# Altium footprint library Capacitor.PcbLib: 19 footprints (part 1 of 2)
Each footprint in its own frame and in the unit in brackets; x right, y up, seen from the top. Pads: shape width x height; smd on the part's side, far side on the other; paste and mask are expansions set on the pad; w line width, h text height; cw(c..) or ccw(c..) is an arc to the next point about the centre after c.
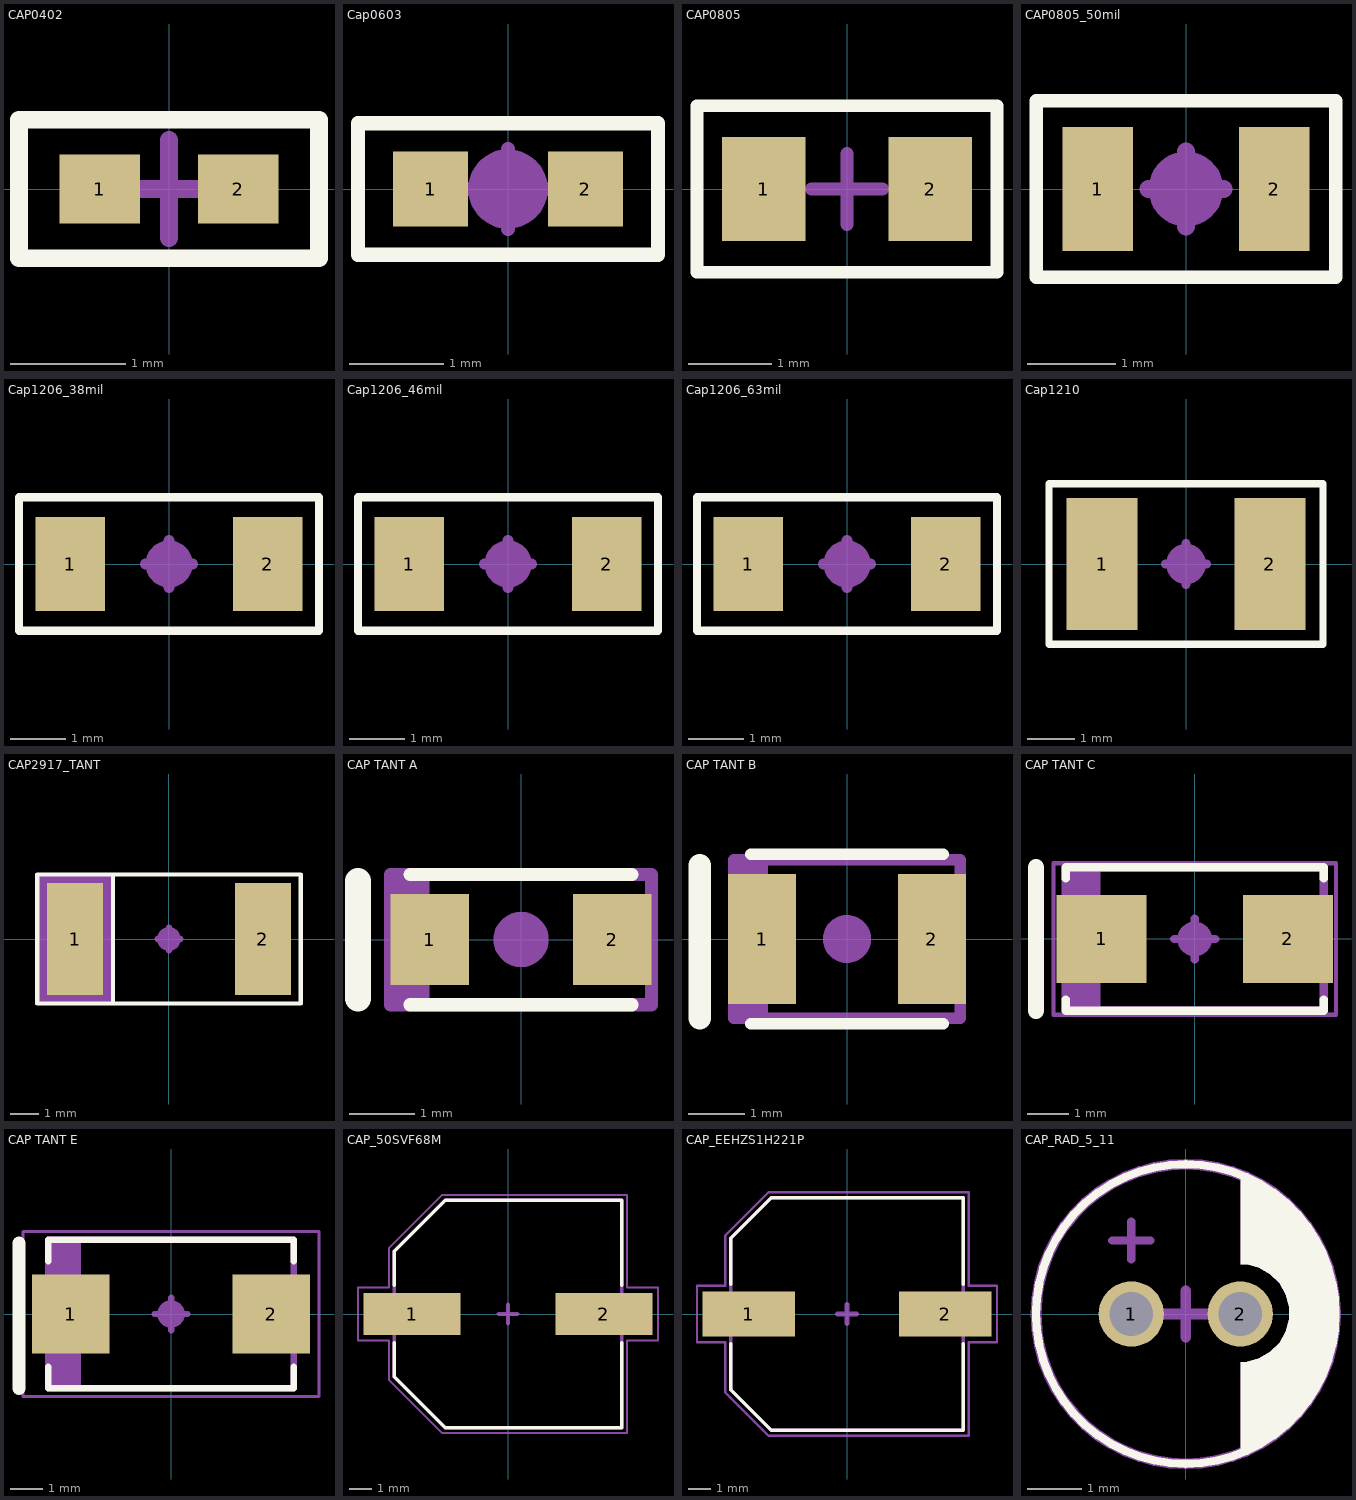
[diagram p0: the footprints below, top view; thin cyan lines are the x and y axes]

## CAP0402 [mm]
pads (2):
  rect 0.7x0.6 smd: 1(-0.6,0) 2(0.6,0)
Top Overlay:
  lines w0.153: -1.3,-0.6 1.3,-0.6 1.3,0.6 -1.3,0.6 -1.3,-0.6
Top Assembly:
  lines w0.1: -1.3,-0.6 1.3,-0.6 1.3,0.6 -1.3,0.6 -1.3,-0.6
  text "'.Designator'" at -1.322,1.07 h0.8
Top Courtyard:
  lines w0.1: -1.3,-0.6 -1.3,0.6 1.3,0.6 1.3,-0.6 -1.3,-0.6
  lines w0.153: -0.425,0 0.425,0 ; 0,-0.425 0,0.425
3D body "C0402.stp": height 0.52, standoff 0.02, extent -0.5,-0.25 0.5,0.25

## Cap0603 [mm]
pads (2):
  rect 0.8x0.8 smd: 1(-0.825,0) 2(0.825,0)
Top Overlay:
  lines w0.153: -1.6,-0.7 1.6,-0.7 1.6,0.7 -1.6,0.7 -1.6,-0.7
Top Assembly:
  circle w0.4: c0,0 r0.224
  lines w0.1: -1.6,-0.7 1.6,-0.7 1.6,0.7 -1.6,0.7 -1.6,-0.7
  text "'.Designator'" at -1.322,1.07 h0.8
Top Courtyard:
  lines w0.1: -1.6,-0.7 -1.6,0.7 1.6,0.7 1.6,-0.7 -1.6,-0.7
  lines w0.153: -0.425,0 0.425,0 ; 0,-0.425 0,0.425
3D body "User Library-CapCeramic_Kemet_0603_1608.STEP": height 0.8, standoff 0, extent -0.863,-0.4 0.737,0.4

## CAP0805 [mm]
pads (2):
  rect 1x1.25 smd: 1(-1,0) 2(1,0)
Top Overlay:
  lines w0.153: -1.8,-1 -1.8,1 1.8,1 1.8,-1 -1.8,-1
Top Assembly:
  lines w0.1: -1.8,-1 1.8,-1 1.8,1 -1.8,1 -1.8,-1
  text "'.Designator'" at -2.547,1.32 h0.8
Top Courtyard:
  lines w0.1: -1.8,-1 -1.8,1 1.8,1 1.8,-1 -1.8,-1
  lines w0.153: -0.425,0 0.425,0 ; 0,-0.425 0,0.425
3D body "Ceramic_Capacitor_0805_h50mil.step": height 1.26, standoff 0.01, extent -1,-0.65 1,0.6

## CAP0805_50mil [mm]
pads (2):
  rect 0.8x1.4 smd: 1(-1,0) 2(1,0)
Top Overlay:
  lines w0.153: -1.7,-1 -1.7,1 1.7,1 1.7,-1 -1.7,-1
Top Assembly:
  circle w0.4: c0,0 r0.224
  lines w0.1: -1.7,-1 1.7,-1 1.7,1 -1.7,1 -1.7,-1
  text "'.Designator'" at -4.532,-0.333 h0.8
Top Courtyard:
  lines w0.1: -1.7,-1 -1.7,1 1.7,1 1.7,-1 -1.7,-1
  lines w0.2: -0.425,0 0.425,0 ; 0,-0.425 0,0.425
3D body "Ceramic_Capacitor_0805_h50mil.step": height 1.26, standoff 0.01, extent -1,-0.65 1,0.6

## Cap1206_38mil [mm]
pads (2):
  rect 1.25x1.7 smd: 1(-1.775,0) 2(1.775,0)
Top Overlay:
  lines w0.153: -2.7,-1.2 -2.7,1.2 2.7,1.2 2.7,-1.2 -2.7,-1.2
Top Assembly:
  circle w0.4: c0,0 r0.224
  lines w0.1: -2.7,-1.2 -2.7,1.2 2.7,1.2 2.7,-1.2 -2.7,-1.2
  text "'.Designator'" at -2.537,1.55 h0.8
Top Courtyard:
  lines w0.1: -2.7,-1.2 -2.7,1.2 2.7,1.2 2.7,-1.2 -2.7,-1.2
  lines w0.2: -0.425,0 0.425,0 ; 0,-0.425 0,0.425
3D body "Ceramic_Capacitor_1206_h38mil.step": height 0.96, standoff 0.01, extent -1.6,-0.775 1.6,0.825

## Cap1206_46mil [mm]
pads (2):
  rect 1.25x1.7 smd: 1(-1.775,0) 2(1.775,0)
Top Overlay:
  lines w0.153: -2.7,-1.2 -2.7,1.2 2.7,1.2 2.7,-1.2 -2.7,-1.2
Top Assembly:
  circle w0.4: c0,0 r0.224
  lines w0.1: -2.7,-1.2 2.7,-1.2 2.7,1.2 -2.7,1.2 -2.7,-1.2
  text "'.Designator'" at -2.537,1.55 h0.8
Top Courtyard:
  lines w0.1: -2.7,-1.2 2.7,-1.2 2.7,1.2 -2.7,1.2 -2.7,-1.2
  lines w0.2: -0.425,0 0.425,0 ; 0,-0.425 0,0.425
3D body "Ceramic_Capacitor_1206_h46mil.step": height 1.16, standoff 0.01, extent -1.6,-0.8 1.6,0.8

## Cap1206_63mil [mm]
pads (2):
  rect 1.25x1.7 smd: 1(-1.775,0) 2(1.775,0)
Top Overlay:
  lines w0.153: -2.7,-1.2 2.7,-1.2 2.7,1.2 -2.7,1.2 -2.7,-1.2
Top Assembly:
  circle w0.4: c0,0 r0.224
  lines w0.1: -2.7,-1.2 2.7,-1.2 2.7,1.2 -2.7,1.2 -2.7,-1.2
  text "'.Designator'" at -2.537,1.55 h0.8
Top Courtyard:
  lines w0.1: -2.7,-1.2 2.7,-1.2 2.7,1.2 -2.7,1.2 -2.7,-1.2
  lines w0.2: -0.425,0 0.425,0 ; 0,-0.425 0,0.425
3D body "Ceramic_Capacitor_1206_h63mil.step": height 1.61, standoff 0.01, extent -1.6,-0.775 1.6,0.825

## Cap1210 [mm]
pads (2):
  rect 1.5x2.8 smd: 1(-1.775,0) 2(1.775,0)
Top Overlay:
  lines w0.153: -2.9,-1.7 -2.9,1.7 2.9,1.7 2.9,-1.7 -2.9,-1.7
Top Assembly:
  circle w0.4: c0,0 r0.224
  lines w0.1: -2.9,-1.7 -2.9,1.7 2.9,1.7 2.9,-1.7 -2.9,-1.7
  text "'.Designator'" at -3.847,2.22 h0.8
Top Courtyard:
  lines w0.1: -2.9,-1.7 -2.9,1.7 2.9,1.7 2.9,-1.7 -2.9,-1.7
  lines w0.2: -0.425,0 0.425,0 ; 0,-0.425 0,0.425
3D body "CAP1210.STEP": height 1.5, standoff 0, extent -1.7,-1.3 1.7,1.3

## CAP2917_TANT [mm]
pads (2):
  rect 2x4 smd: 1(-3.35,0) 2(3.35,0)
Top Overlay:
  lines w0.153: -2,-2.3 -2,2.3 ; -4.7,-2.3 4.7,-2.3 4.7,2.3 -4.7,2.3 -4.7,-2.3
Top Assembly:
  circle w0.4: c0,0 r0.224
  rectangle: -4.7,-2.3 -2,2.3
  lines w0.1: -2,-2.3 -2,2.3 ; -4.7,-2.3 4.7,-2.3 4.7,2.3 -4.7,2.3 -4.7,-2.3
  text "'.Designator'" at -4.637,2.95 h0.8
Top Courtyard:
  lines w0.1: -2,-2.3 -2,2.3 ; -4.7,-2.3 -4.7,2.3 4.7,2.3 4.7,-2.3 -4.7,-2.3
  lines w0.2: -0.425,0 0.425,0 ; 0,-0.425 0,0.425
3D body "AVX_E_CASE.step": height 4.2, standoff 0, extent -3.7,-2.225 3.7,2.225

## CAP TANT A [mm]
pads (2):
  rect 1.2x1.4 smd: 1(-1.4,0) 2(1.4,0)
Top Overlay:
  lines w0.2: -1.7,-1 1.7,-1 ; -1.7,1 1.7,1
  lines w0.4: -2.5,-0.9 -2.5,0.9
Top Assembly:
  circle w0.4: c0,0 r0.224
  rectangle: -2.007,-1 -1.4,1.016
  lines w0.2: -2,-1 2,-1 2,1 -2,1 -2,-1
  text "'.Designator'" at -3.947,1.62 h0.8
Top Courtyard:
  lines w0.1: -2.049,-1 -2.049,1 2.01,1 2.01,-1 -2.049,-1
  lines w0.2: -0.3,0 0.3,0 ; 0,-0.3 0,0.3
3D body "User Library-CAP_TANT_3216-18_A_case-1.STEP": height 1.7, standoff 0, extent -1.7,-0.9 1.7,0.9

## CAP TANT B [mm]
pads (2):
  rect 1.2x2.3 smd: 1(-1.5,0) 2(1.5,0)
Top Overlay:
  lines w0.2: -1.7,-1.5 1.7,-1.5 ; -1.7,1.5 1.7,1.5
  lines w0.4: -2.6,-1.4 -2.6,1.3
Top Assembly:
  circle w0.4: c0,0 r0.224
  rectangle: -2.007,-1.4 -1.4,1.4
  lines w0.2: -2,-1.4 -2,1.4 2,1.4 2,-1.4 -2,-1.4
  text "'.Designator'" at -4.747,2.02 h0.8
Top Courtyard:
  lines w0.1: -2.049,-1.4 2.01,-1.4 2.01,1.4 -2.049,1.4 -2.049,-1.4
  lines w0.2: -0.3,0 0.3,0 ; 0,-0.3 0,0.3
3D body "User Library-QT02752.STEP": height 1.9, standoff -0.01, extent -1.831,-1.4 1.831,1.4

## CAP TANT C [mm] "CAP TANT C"
pads (2):
  rect 2.2x2.15 smd: 1(-2.275,0) 2(2.275,0)
Top Overlay:
  lines w0.2: -3.15,-1.475 -3.15,-1.75 3.15,-1.75 3.15,-1.475 ; -3.15,1.475 -3.15,1.75 3.15,1.75 3.15,1.475
  lines w0.4: -3.875,-1.75 -3.875,1.75
Top Assembly:
  circle w0.4: c0,0 r0.224
  rectangle: -3.15,-1.75 -2.303,1.75
  lines w0.2: -3.15,-1.75 -3.15,1.75 3.15,1.75 3.15,-1.75 -3.15,-1.75
  text "CHECK" at -1.275,2.571 h0.8
Top Courtyard:
  lines w0.1: -3.45,-1.85 3.45,-1.85 3.45,1.85 -3.45,1.85 -3.45,-1.85
  lines w0.2: -0.5,0 0.5,0 ; 0,-0.5 0,0.5
3D body "CAPMP6032X28L.step": height 2.8, standoff 0, extent -3.37,-1.75 3.37,1.75

## CAP TANT E [mm] "Molded Capacitor, 2-Leads, Body 7,45x4,45mm, IPC Medium Density"
height 4
pads (2):
  rect 2.4x2.45 smd: 1(-3.1,0) 2(3.1,0)
Top Overlay:
  lines w0.2: -3.8,-1.625 -3.8,-2.3 3.8,-2.3 3.8,-1.625 ; -3.8,1.625 -3.8,2.3 3.8,2.3 3.8,1.625
  lines w0.4: -4.7,-2.3 -4.7,2.2
Top Assembly:
  circle w0.4: c0,0 r0.224
  rectangle: -3.8,-2.3 -2.778,2.3
  lines w0.2: -3.8,-2.3 -3.8,2.3 3.8,2.3 3.8,-2.3 -3.8,-2.3
  text "CHECK" at -1.247,3.353 h0.8
Top Courtyard:
  lines w0.1: -4.575,-2.55 -4.575,2.55 4.575,2.55 4.575,-2.55 -4.575,-2.55
  lines w0.2: -0.5,0 0.5,0 ; 0,-0.5 0,0.5
3D body "CAP TANT E.step": height 4, standoff 0, extent -4.02,-2.3 4.02,2.3

## CAP_50SVF68M [mm]
pads (2):
  rect 4.4x1.9 smd: 1(-4.35,0) 2(4.35,0)
Top Overlay:
  lines w0.153: -5.15,-1.3 -5.15,-2.85 -2.85,-5.15 5.15,-5.15 5.15,-1.3 ; -5.15,1.3 -5.15,2.85 -2.85,5.15 5.15,5.15 5.15,1.3
Top Assembly:
  lines w0.153: -5.15,-2.85 -2.85,-5.15 5.15,-5.15 5.15,5.15 -2.85,5.15 -5.15,2.85 -5.15,-2.85
  text "CHECK" at -2.047,7.153 h0.8
  text "'.Designator'" at -5.29,5.4 h0.8
Top Courtyard:
  lines w0.1: -6.8,-1.2 -5.4,-1.2 -5.4,-2.975 -2.975,-5.4 5.4,-5.4 5.4,-1.2 6.8,-1.2 6.8,1.2 5.4,1.2 5.4,5.4 -2.975,5.4 -5.4,2.975 -5.4,1.2 -6.8,1.2 -6.8,-1.2
  lines w0.2: -0.425,0 0.425,0 ; 0,-0.425 0,0.425
3D body "50SVF68M.STEP": height 12.6, standoff 0, extent -5.5,-5.15 5.5,5.15

## CAP_EEHZS1H221P [mm]
pads (2):
  rect 4.1x2 smd: 1(-4.35,0) 2(4.35,0)
Top Overlay:
  lines w0.153: -5.15,-1.32 -5.15,-3.35 -3.35,-5.15 5.15,-5.15 5.15,-1.32 ; -5.15,1.32 -5.15,3.35 -3.35,5.15 5.15,5.15 5.15,1.32
Top Assembly:
  lines w0.153: -5.15,-3.35 -5.15,3.35 -3.35,5.15 5.15,5.15 5.15,-5.15 -3.35,-5.15 -5.15,-3.35
  text "'.Designator'" at -6.59,5.6 h0.8
  text "CHECK" at -1.847,7.753 h0.8
Top Courtyard:
  lines w0.1: -6.65,-1.25 -6.65,1.25 -5.4,1.25 -5.4,3.475 -3.475,5.4 5.4,5.4 5.4,1.25 6.65,1.25 6.65,-1.25 5.4,-1.25 5.4,-5.4 -3.475,-5.4 -5.4,-3.475 -5.4,-1.25 -6.65,-1.25
  lines w0.2: -0.425,0 0.425,0 ; 0,-0.425 0,0.425
3D body "step_temp.STEP": height 16.5, standoff 0, extent -5.5,-5.15 5.5,5.15

## CAP_RAD_5_11 [mm]
pads (2):
  round 1.2 hole 0.8: 1(-1,0) 2(1,0)
Top Overlay:
  circle w0.15: c0,0 r2.75
  region: 1.008,-2.536 1.008,-0.883 1.125,-0.875 1.352,-0.814 1.556,-0.697 1.722,-0.53 1.839,-0.327 1.9,-0.1 1.9,0.135 1.839,0.362 1.722,0.565 1.556,0.731 1.352,0.849 1.125,0.91 1.008,0.917 1.008,2.556 1.016,2.576 1.207,2.501 1.562,2.295 1.883,2.039 2.163,1.738 2.395,1.398 2.573,1.029 2.695,0.636 2.757,0.23 2.758,-0.181 2.698,-0.587 2.579,-0.98 2.402,-1.351 2.172,-1.692 1.894,-1.994 1.574,-2.252 1.22,-2.46 1.029,-2.536
Top Assembly:
  circle w0.15: c0,0 r2.75
  region: 1.008,-2.536 1.008,-0.883 1.125,-0.875 1.352,-0.814 1.556,-0.697 1.722,-0.53 1.839,-0.327 1.9,-0.1 1.9,0.135 1.839,0.362 1.722,0.565 1.556,0.731 1.352,0.849 1.125,0.91 1.008,0.917 1.008,2.556 1.016,2.576 1.207,2.501 1.562,2.295 1.883,2.039 2.163,1.738 2.395,1.398 2.573,1.029 2.695,0.636 2.757,0.23 2.758,-0.181 2.698,-0.587 2.579,-0.98 2.402,-1.351 2.172,-1.692 1.894,-1.994 1.574,-2.252 1.22,-2.46 1.029,-2.536
  lines w0.15: -1.35,1.35 -0.65,1.35 ; -1,1 -1,1.7
  text "'.Designator'" at -4.7,2.8 h0.8
Top Courtyard:
  circle w0.2: c0,0 r2.75
  lines w0.2: -0.425,0 0.425,0 ; 0,-0.425 0,0.425
3D body "ESK106M063AC3FA.step": height 12.6, standoff -12.4, extent -2.738,-2.75 2.738,2.75